# EAGLE library part 53047-0710 (library con-molex-picoblade)
HEADER
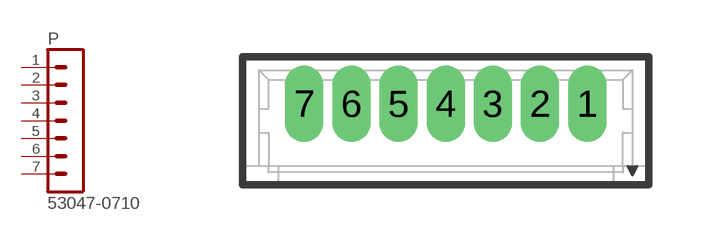
[diagram p1: symbol with the pads of 53047-0710; footprint 53047-0710]

Designator prefix P

## 53047-0710  [53047-0710]
1  1  pas
2  2  pas
3  3  pas
4  4  pas
5  5  pas
6  6  pas
7  7  pas

## Footprint 53047-0710 (pad centres in mm)
HEADER
drill 0.508 long: 1 3.75,0; 2 2.5,0; 3 1.25,0; 4 0,0; 5 -1.25,0; 6 -2.5,0; 7 -3.75,0